# EAGLE library part TPS51206DSQ (library ICs)
Converter, DDR Voltage Regulator IC 1 Output 10-WSON (2x2)
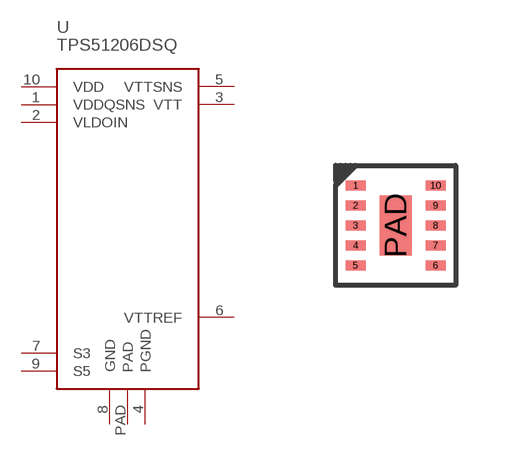
[diagram p298: symbol with the pads of WSON10; footprint WSON10]

Designator prefix U

## TPS51206DSQ (DIGIKEY: 296-28767-1-ND; HEIGHT: 1; PRICE_PER: 0.76; VALUE: TPS51206D)  [WSON10]
1  VDDQSNS
2  VLDOIN
3  VTT
4  PGND
5  VTTSNS
6  VTTREF
7  S3
8  GND
9  S5
10  VDD
PAD  PAD

## Footprint WSON10 (pad centres in mm)
smd 0.5 x 0.25: 1 -1,1; 2 -1,0.5; 3 -1,0; 4 -1,-0.5; 5 -1,-1; 6 1,-1; 7 1,-0.5; 8 1,0; 9 1,0.5; 10 1,1
smd 0.8 x 1.5: PAD 0,0